# Altium integrated library C0805C103J4RAC7800.IntLib: 1 symbol
Pins are listed as number, name and electrical type; pins without a type are passive.

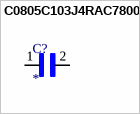
[diagram p0: symbol C0805C103J4RAC7800]

## C0805C103J4RAC7800
designator C?
MP: C0805C103J4RAC7800; Package: None; Price: None; Value: *; Availability: Unavailable
footprint CAPC2012X88N
pins: 1, 2